# EAGLE library part ARDUINO_MEGA_DIMENSION_REDUCED (library LinnesLab-Microcontrollers)
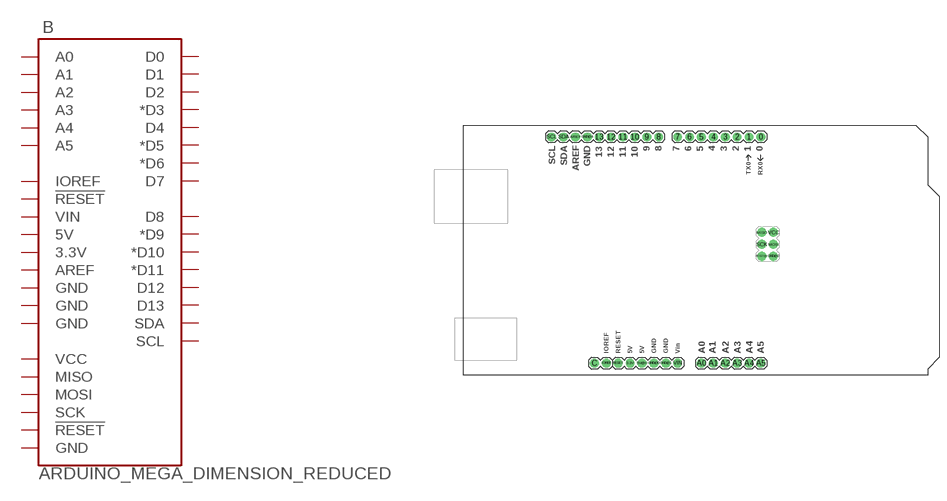
[diagram p20: symbol with the pads of ARDUINO_MEGA_DIMENSION_REDUCED; footprint ARDUINO_MEGA_DIMENSION_REDUCED]

Designator prefix B

## ARDUINO_MEGA_DIMENSION_REDUCED  [ARDUINO_MEGA_DIMENSION_REDUCED]
0  D0
1  D1
2  D2
3  *D3
3.3V  3.3V
4  D4
5  *D5
5V@0  5V
6  *D6
7  D7
8  D8
9  *D9
10  *D10
11  *D11
12  D12
13  D13
A0  A0
A1  A1
A2  A2
A3  A3
A4  A4
A5  A5
AREF  AREF
GND@0  GND
GND@1  GND
GND@2  GND
GND@4  GND
IOREF  IOREF
MISO  MISO
MOSI  MOSI
RESET  !RESET!
RESET@2  !RESET!
SCK  SCK
SCL  SCL
SDA  SDA
VCC  VCC
VIN  VIN

## Footprint ARDUINO_MEGA_DIMENSION_REDUCED (pad centres in mm)
drill 1.016 pad 1.88: 0 63.5,50.8; 1 60.96,50.8; 2 58.42,50.8; 3 55.88,50.8; 3.3V 35.56,2.54; 4 53.34,50.8; 5 50.8,50.8; 5V@0 38.1,2.54; 6 48.26,50.8; 7 45.72,50.8; 8 41.656,50.8; 9 39.116,50.8; 10 36.576,50.8; 11 34.036,50.8; 12 31.496,50.8; 13 28.956,50.8; A0 50.8,2.54; A1 53.34,2.54; A2 55.88,2.54; A3 58.42,2.54; A4 60.96,2.54; A5 63.5,2.54; AREF 23.876,50.8; C 27.94,2.54; GND@0 40.64,2.54; GND@1 43.18,2.54; GND@4 26.416,50.8; IOREF 30.48,2.54; RESET 33.02,2.54; SCL 18.796,50.8; SDA 21.336,50.8; VIN 45.72,2.54
drill 1.016 pad 1.93: GND@2 66.18,25.35; MISO 63.64,30.43; MOSI 66.18,27.89; RESET@2 63.64,25.35; SCK 63.64,27.89; VCC 66.18,30.43